# Altium footprint library JAjchel_footprint_AD822.PcbLib: 1 footprints
Each footprint in its own frame and in the unit in brackets; x right, y up, seen from the top. Pads: shape width x height; smd on the part's side, far side on the other; paste and mask are expansions set on the pad; w line width, h text height; cw(c..) or ccw(c..) is an arc to the next point about the centre after c.
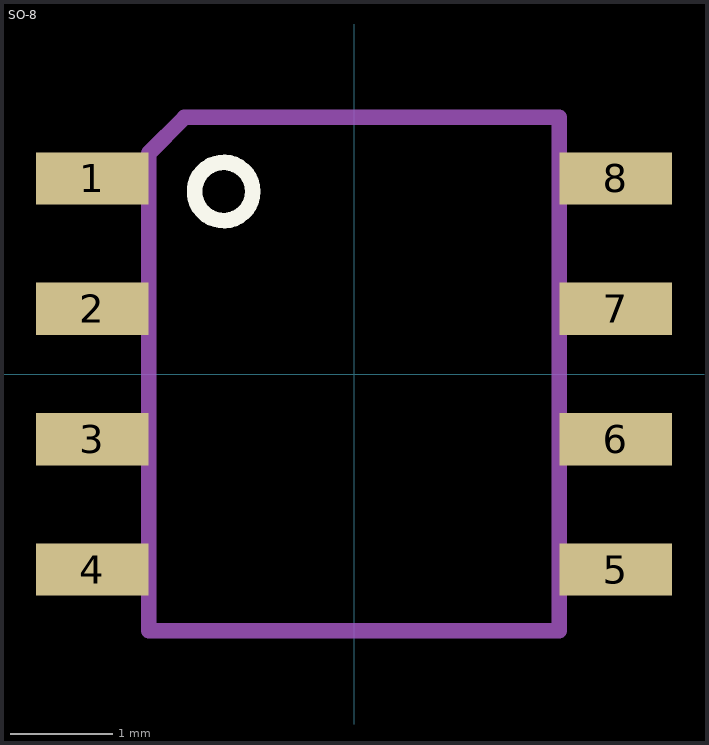
[diagram p0: the footprint, top view; thin cyan lines are the x and y axes]

## SO-8 [mm]
pads (8):
  rect 1.1x0.51 smd: 1(-2.55,1.905) 2(-2.55,0.635) 3(-2.55,-0.635) 4(-2.55,-1.905) 5(2.55,-1.905) 6(2.55,-0.635) 7(2.55,0.635) 8(2.55,1.905)
Top Overlay:
  circle w0.152: c-1.27,1.778 r0.284
Mechanical 13:
  lines w0.152: -1.992,2.159 -1.651,2.5 ; -1.651,2.5 2,2.5 2,-2.5 -2,-2.5 -2,2.151 -1.651,2.5
3D body "SW3DPS-SO-8-DEFAULT.STEP": height 1.46, standoff 0.01, extent -2.927,-2.438 2.851,2.464